# Altium integrated library card-general.IntLib: 3 symbols
Pins are listed as number, name and electrical type; pins without a type are passive.

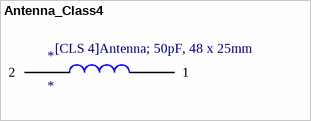
[diagram p0: symbol Antenna_Class4]

## Antenna_Class4
designator *
footprint Class4_Antenna
pins: 1, 2
text: [CLS 4]Antenna; 50pF, 48 x 25mm


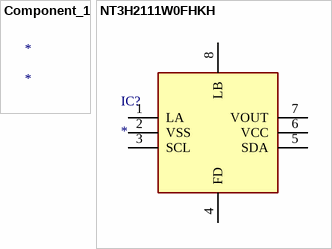
[diagram p1: symbols Component_1 to NT3H2111W0FHKH]

## Component_1
designator *

## NT3H2111W0FHKH
designator IC?
Integrated Circuit; Manufacturer_Name: Nexperia; Manufacturer_Part_Number: NT3H2111W0FHKH; Description: RFID Transponders BL SECURE MOBILE TRANSACTIONS; Datasheet Link: http://www.nxp.com/docs/en/data-sheet/NT3H2111_2211.pdf; Height: 0.5mm; Mouser Part Number: 771-NT3H2111W0FHKH; Mouser Price/Stock: https://www.mouser.com/Search/Refine.aspx?Keyword=771-NT3H2111W0FHKH
footprint QFN50P160X160X50-8N
pins: 1 LA, 2 VSS, 3 SCL, 4 FD, 5 SDA, 6 VCC, 7 VOUT, 8 LB